# Altium schematic symbol library 74LVCE1G126FZ4-7.Schlib: 1 symbol
Pins are listed as number, name and electrical type; pins without a type are passive.

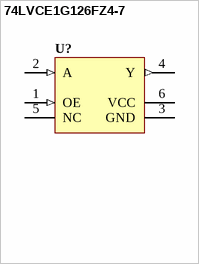
[diagram p0: symbol 74LVCE1G126FZ4-7]

## 74LVCE1G126FZ4-7
designator U?
pins: 1 OE (in), 2 A (in), 3 GND (power), 4 Y (out), 5 NC, 6 VCC (power)